# EAGLE library part 10P (library connect)
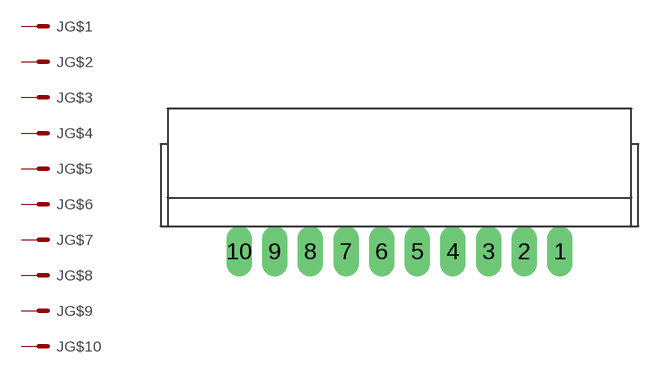
[diagram p3: symbol with the pads of 10P-ML; footprint 10P-ML]

Designator prefix J; gates G$1=M G$2=M G$3=M G$4=M G$5=M G$6=M G$7=M G$8=M G$9=M G$10=M

## 10P-ML  [10P-ML]
1  G$1:S  pas
2  G$2:S  pas
3  G$3:S  pas
4  G$4:S  pas
5  G$5:S  pas
6  G$6:S  pas
7  G$7:S  pas
8  G$8:S  pas
9  G$9:S  pas
10  G$10:S  pas

## Footprint 10P-ML (pad centres in mm)
drill 1.2 pad 1.676 long: 1 11.43,0; 2 8.89,0; 3 6.35,0; 4 3.81,0; 5 1.27,0; 6 -1.27,0; 7 -3.81,0; 8 -6.35,0; 9 -8.89,0; 10 -11.43,0